# Altium footprint library QUTMS_OptoIsolator.PcbLib: 1 footprints
Each footprint in its own frame and in the unit in brackets; x right, y up, seen from the top. Pads: shape width x height; smd on the part's side, far side on the other; paste and mask are expansions set on the pad; w line width, h text height; cw(c..) or ccw(c..) is an arc to the next point about the centre after c.
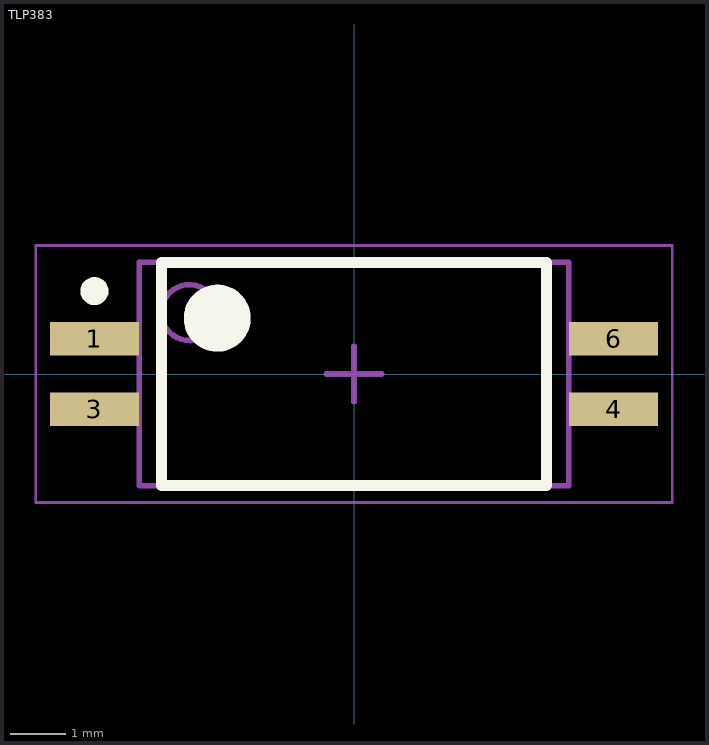
[diagram p0: the footprint, top view; thin cyan lines are the x and y axes]

## TLP383 [mm]
height 2.2
pads (4):
  rect 1.6x0.6 smd: 1(-4.65,0.635) 3(-4.65,-0.635) 4(4.65,-0.635) 6(4.65,0.635)
Top Overlay:
  circle w0.25: c-4.65,1.485 r0.125
  circle w0.6: c-2.45,1 r0.3
  lines w0.2: -3.45,-2 -3.45,2 3.45,2 3.45,-2 -3.45,-2
Mechanical 13:
  circle w0.1: c-2.95,1.1 r0.5
  lines w0.1: -3.85,-2 -3.85,2 3.85,2 3.85,-2 -3.85,-2
Mechanical 15:
  lines w0.05: -5.7,-2.3 -5.7,2.3 5.7,2.3 5.7,-2.3 -5.7,-2.3
  lines w0.1: -0.5,0 0.5,0 ; 0,-0.5 0,0.5
3D body: height 1.27, standoff 0, extent -2.54,-2.537 2.54,2.537